# EAGLE library part TPS62091RGTT (library TI)
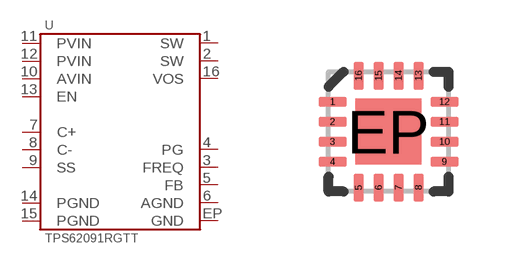
[diagram p1: symbol with the pads of QFN-16; footprint QFN-16]

Designator prefix U

## TPS62091RGTT  [QFN-16]
1  SW
2  SW
3  FREQ
4  PG
5  FB
6  AGND
7  C+
8  C-
9  SS
10  AVIN
11  PVIN
12  PVIN
13  EN
14  PGND
15  PGND
16  VOS
EP  GND

## Footprint QFN-16 (pad centres in mm)
smd 0.7 x 0.25: 1 -1.4,0.75; 2 -1.4,0.25; 3 -1.4,-0.25; 4 -1.4,-0.75; 9 1.4,-0.75; 10 1.4,-0.25; 11 1.4,0.25; 12 1.4,0.75
smd 0.25 x 0.7: 5 -0.75,-1.4; 6 -0.25,-1.4; 7 0.25,-1.4; 8 0.75,-1.4; 13 0.75,1.4; 14 0.25,1.4; 15 -0.25,1.4; 16 -0.75,1.4
smd 1.65 x 1.65: EP 0,0